# EAGLE library part TPS7A4700RGWR (library Fugu_LSI)
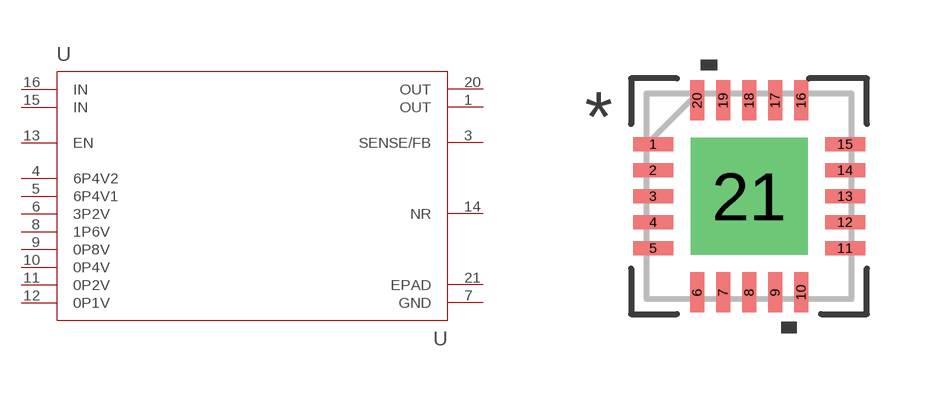
[diagram p38: symbol with the pads of RGW20_3P15X3P15; footprint RGW20_3P15X3P15]

Designator prefix U

## TPS7A4700RGWR (MANUFACTURER_PART_NUMBER: TPS7A4700RGWR; VENDOR: TEXAS INSTRUMENTS)  [RGW20_3P15X3P15]
1  OUT  out
3  SENSE/FB  in
4  6P4V2  in
5  6P4V1  in
6  3P2V  in
7  GND  pwr
8  1P6V  in
9  0P8V  in
10  0P4V  in
11  0P2V  in
12  0P1V  in
13  EN  in
14  NR  pas
15  IN  in
16  IN  in
20  OUT  out
21  EPAD  pas

## Footprint RGW20_3P15X3P15 (pad centres in mm)
smd 1 x 0.35: 1 -2.4,1.3; 2 -2.4,0.65; 3 -2.4,0; 4 -2.4,-0.65; 5 -2.4,-1.3; 11 2.4,-1.3; 12 2.4,-0.65; 13 2.4,0; 14 2.4,0.65; 15 2.4,1.3
smd 0.35 x 1: 6 -1.3,-2.4; 7 -0.65,-2.4; 8 0,-2.4; 9 0.65,-2.4; 10 1.3,-2.4; 16 1.3,2.4; 17 0.65,2.4; 18 0,2.4; 19 -0.65,2.4; 20 -1.3,2.4
drill 1.6 pad 2.921 square: 21 0,0